# Altium schematic symbol library Schlib1.SchLib: 3 symbols
Pins are listed as number, name and electrical type; pins without a type are passive.

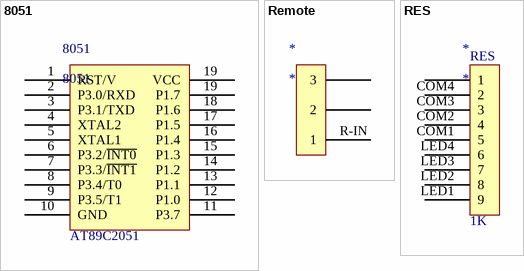
[diagram p0: symbols 8051 to RES]

## 8051
designator 8051
pins: 1 RST/V "RST", 2 P3.0/RXD, 3 P3.1/TXD, 4 XTAL2, 5 XTAL1, 6 P3.2/~{INT0}, 7 P3.3/~{INT1}, 8 P3.4/T0, 9 P3.5/T1, 10 GND, 11 P3.7, 12 P1.0, 13 P1.1, 14 P1.2, 15 P1.3, 16 P1.4, 17 P1.5, 18 P1.6, 19 P1.7, 19 VCC
text: AT89C2051

## Remote
designator *
pins: ?1 3, ?2 2, R-IN 1

## RES
designator *
pins: ?1 1, COM1 5, COM2 4, COM3 3, COM4 2, LED1 9, LED2 8, LED3 7, LED4 6
text: 1K